# Altium schematic symbol library SCH - MCU - NUVOTON - NUVOTON M0519LD3AE.SchLib: 1 symbol
Pins are listed as number, name and electrical type; pins without a type are passive.

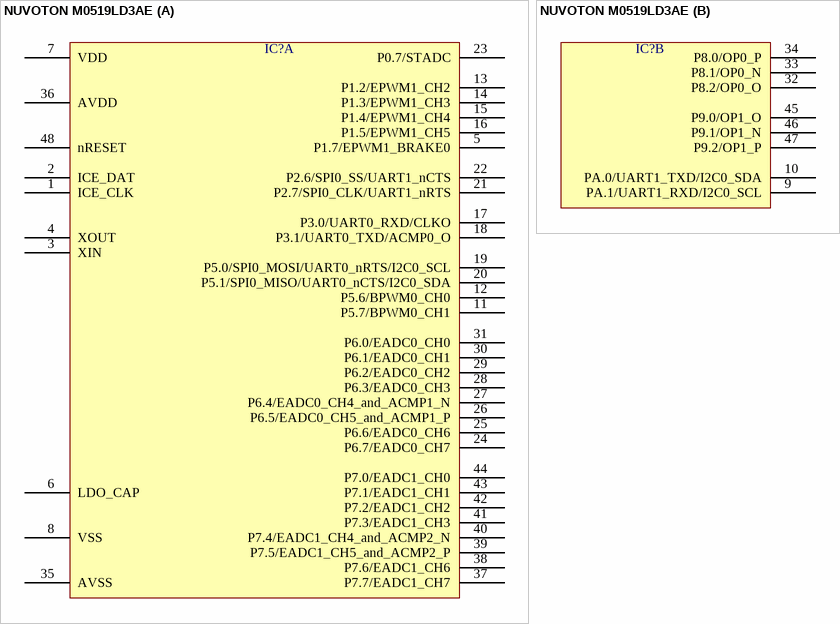
[diagram p0: symbol NUVOTON M0519LD3AE]

## NUVOTON M0519LD3AE
designator IC?  (value not drawn)
part A pins: 1 ICE_CLK, 2 ICE_DAT, 3 XIN, 4 XOUT, 5 P1.7/EPWM1_BRAKE0, 6 LDO_CAP, 7 VDD, 8 VSS, 11 P5.7/BPWM0_CH1, 12 P5.6/BPWM0_CH0, 13 P1.2/EPWM1_CH2, 14 P1.3/EPWM1_CH3, 15 P1.4/EPWM1_CH4, 16 P1.5/EPWM1_CH5, 17 P3.0/UART0_RXD/CLKO, 18 P3.1/UART0_TXD/ACMP0_O, 19 P5.0/SPI0_MOSI/UART0_nRTS/I2C0_SCL, 20 P5.1/SPI0_MISO/UART0_nCTS/I2C0_SDA, 21 P2.7/SPI0_CLK/UART1_nRTS, 22 P2.6/SPI0_SS/UART1_nCTS, 23 P0.7/STADC, 24 P6.7/EADC0_CH7, 25 P6.6/EADC0_CH6, 26 P6.5/EADC0_CH5_and_ACMP1_P, 27 P6.4/EADC0_CH4_and_ACMP1_N, 28 P6.3/EADC0_CH3, 29 P6.2/EADC0_CH2, 30 P6.1/EADC0_CH1, 31 P6.0/EADC0_CH0, 35 AVSS, 36 AVDD, 37 P7.7/EADC1_CH7, 38 P7.6/EADC1_CH6, 39 P7.5/EADC1_CH5_and_ACMP2_P, 40 P7.4/EADC1_CH4_and_ACMP2_N, 41 P7.3/EADC1_CH3, 42 P7.2/EADC1_CH2, 43 P7.1/EADC1_CH1, 44 P7.0/EADC1_CH0, 48 nRESET
part B pins: 9 PA.1/UART1_RXD/I2C0_SCL, 10 PA.0/UART1_TXD/I2C0_SDA, 32 P8.2/OP0_O, 33 P8.1/OP0_N, 34 P8.0/OP0_P, 45 P9.0/OP1_O, 46 P9.1/OP1_N, 47 P9.2/OP1_P